# Altium integrated library SM-LP-5001.IntLib: 1 symbol
Pins are listed as number, name and electrical type; pins without a type are passive.

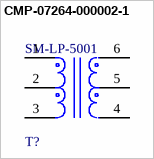
[diagram p0: symbol CMP-07264-000002-1]

## CMP-07264-000002-1
designator T?, comment SM-LP-5001
TRANSFORMER LINE MATCHING SMD
footprint SM-LP-5001
pins: 1, 2, 3, 4, 5, 6